# Altium footprint library BGA11C50P3X4_144X194X72.PcbLib: 1 footprints
Each footprint in its own frame and in the unit in brackets; x right, y up, seen from the top. Pads: shape width x height; smd on the part's side, far side on the other; paste and mask are expansions set on the pad; w line width, h text height; cw(c..) or ccw(c..) is an arc to the next point about the centre after c.
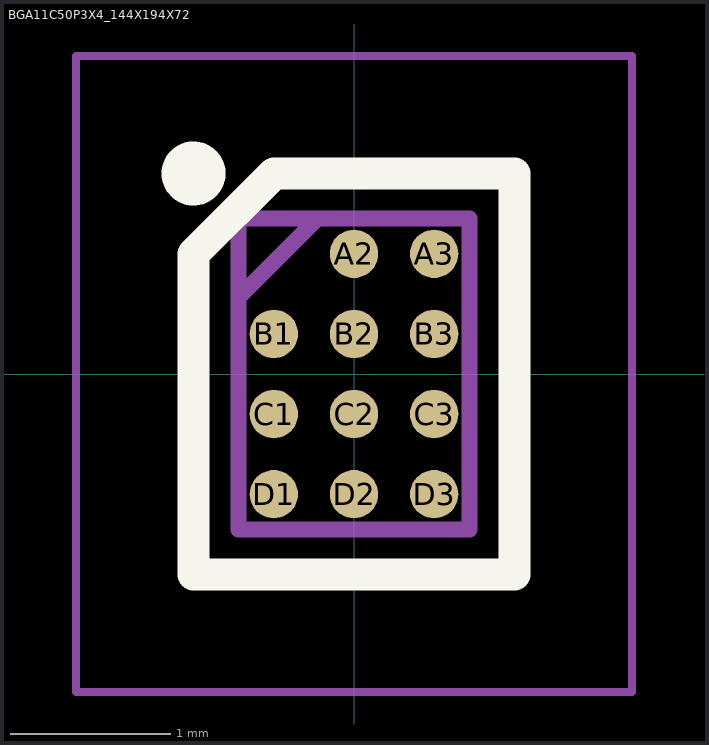
[diagram p0: the footprint, top view; thin cyan lines are the x and y axes]

## BGA11C50P3X4_144X194X72 [mm]
pads (11):
  round 0.302 smd: A2(0,0.75) A3(0.5,0.75) B1(-0.5,0.25) B2(0,0.25) B3(0.5,0.25) C1(-0.5,-0.25) C2(0,-0.25) C3(0.5,-0.25) D1(-0.5,-0.75) D2(0,-0.75) D3(0.5,-0.75)
L26-Silk Screen Top (Multiple PADS layers...):
  circle w0.2: c-1.001,1.251 r0.1
  lines w0.2: -1.001,-1.251 -1.001,0.75 -0.5,1.251 1.001,1.251 1.001,-1.251 -1.001,-1.251
L15 (Multiple PADS layers...):
  lines w0.1: -0.72,0.478 -0.228,0.97 ; -0.72,-0.97 -0.72,0.97 0.72,0.97 0.72,-0.97 -0.72,-0.97
L20:
  lines w0.05: -1.735,-1.985 -1.735,1.985 1.735,1.985 1.735,-1.985 -1.735,-1.985
3D body "EMIF02-USB03F2.stp": height 0.71, standoff 0, extent -0.72,-0.97 0.72,0.97